# EAGLE library part AD8132 (library Mine)
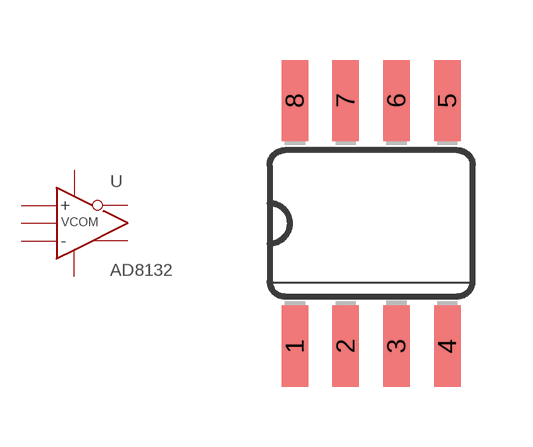
[diagram p47: symbol with the pads of SO08; footprint SO08]

Designator prefix -

## AD8132  [SO08]
1  IN-  in
2  VCOM  in
3  V+  pwr
4  OUT+  out
5  OUT-  out
6  V-  pwr
8  IN+  in

## Footprint SO08 (pad centres in mm)
Small Outline package 8 150 mil
smd 0.66 x 2.032: 1 -1.905,-3.073; 2 -0.635,-3.073; 3 0.635,-3.073; 4 1.905,-3.073; 5 1.905,3.073; 6 0.635,3.073; 7 -0.635,3.073; 8 -1.905,3.073